# EAGLE library part CC1101 (library record_revc_ina225)
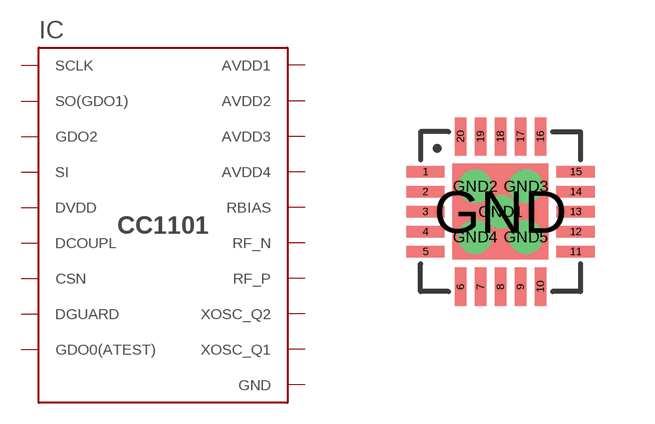
[diagram p2: symbol with the pads of QLP20; footprint QLP20]

Designator prefix IC

## CC1101  [QLP20]
1  SCLK
2  SO(GDO1)
3  GDO2
4  DVDD
5  DCOUPL
6  GDO0(ATEST)
7  CSN
8  XOSC_Q1
9  AVDD1
10  XOSC_Q2
11  AVDD2
12  RF_P
13  RF_N
14  AVDD3
15  AVDD4
16  GND
17  RBIAS
18  DGUARD
19  GND
20  SI
GND  GND
GND1  GND
GND2  GND
GND3  GND
GND4  GND
GND5  GND

## Footprint QLP20 (pad centres in mm)
smd 0.96 x 0.28: 1 -1.88,1; 2 -1.88,0.5; 3 -1.88,0; 4 -1.88,-0.5; 5 -1.88,-1; 11 1.88,-1; 12 1.88,-0.5; 13 1.88,0; 14 1.88,0.5; 15 1.88,1
smd 0.28 x 0.96: 6 -1,-1.88; 7 -0.5,-1.88; 8 0,-1.88; 9 0.5,-1.88; 10 1,-1.88; 16 1,1.88; 17 0.5,1.88; 18 0,1.88; 19 -0.5,1.88; 20 -1,1.88
smd 2.4 x 2.4: GND 0,0
drill 0.333: GND1 0,0; GND2 -0.635,0.635; GND3 0.635,0.635; GND4 -0.635,-0.635; GND5 0.635,-0.635